# Altium footprint library Gelnar.PcbLib: 295 footprints (part 6 of 19)
Each footprint in its own frame and in the unit in brackets; x right, y up, seen from the top. Pads: shape width x height; smd on the part's side, far side on the other; paste and mask are expansions set on the pad; w line width, h text height; cw(c..) or ccw(c..) is an arc to the next point about the centre after c.
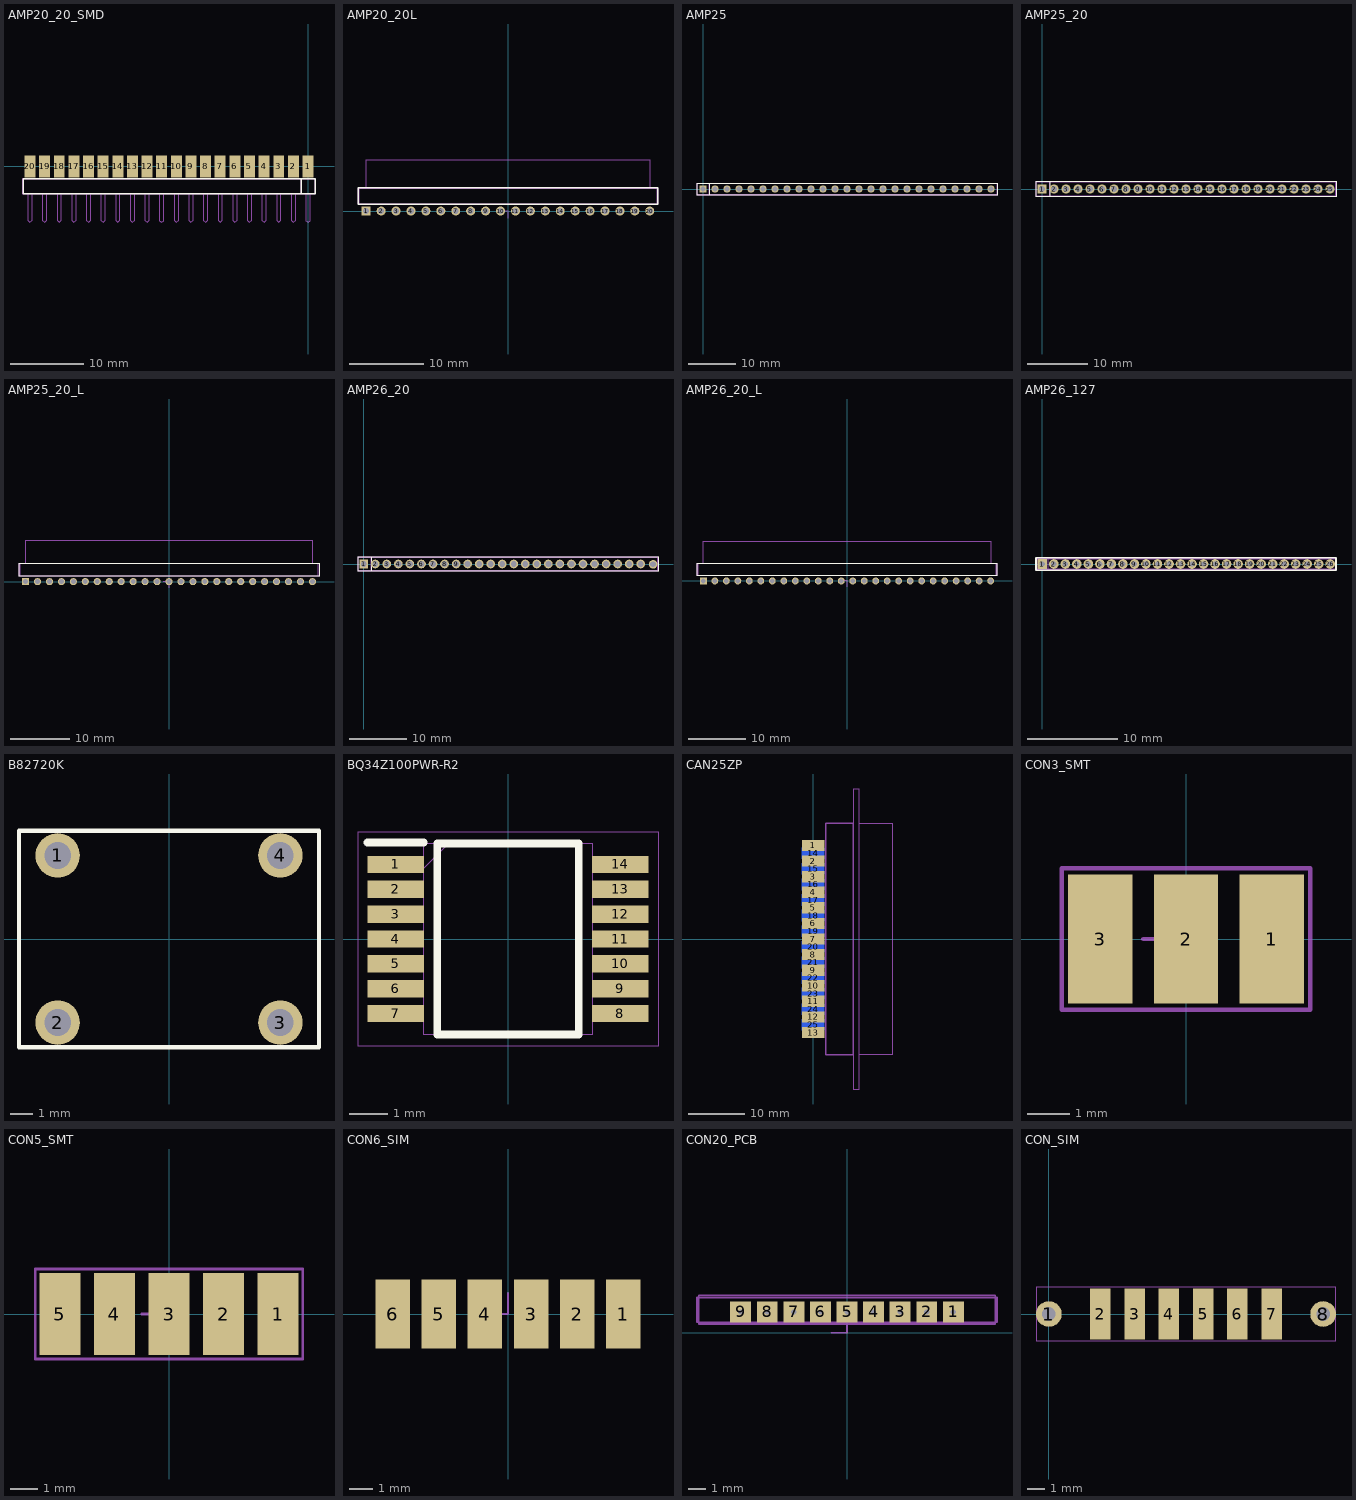
[diagram p5: the footprints below, top view; thin cyan lines are the x and y axes]

## AMP20_20_SMD [mm]
height 9.5
pads (20):
  rect 1.5x3 smd mask+0.05: 1(0,0) 2(-2,0) 3(-4,0) 4(-6,0) 5(-8,0) 6(-10,0) 7(-12,0) 8(-14,0) 9(-16,0) 10(-18,0) 11(-20,0) 12(-22,0) 13(-24,0) 14(-26,0) 15(-28,0) 16(-30,0) 17(-32,0) 18(-34,0) 19(-36,0) 20(-38,0)
Top Overlay:
  lines w0.2: -0.95,-3.7 -0.95,-1.7 ; -38.95,-3.7 1,-3.7 1,-1.7 -38.95,-1.7 -38.95,-3.7
Mechanical 15:
  lines w0.1: -0.95,-3.7 -0.95,-1.7 ; -38.95,-3.7 0.95,-3.7 0.95,-1.7 -38.95,-1.7 -38.95,-3.7 ; -38.3,-7.35 -38.3,-3.7 -37.7,-3.7 -37.7,-7.35 -38,-7.6 -38.3,-7.35 ; -36.3,-7.35 -36.3,-3.7 -35.7,-3.7 -35.7,-7.35 -36,-7.6 -36.3,-7.35 ; -34.3,-7.35 -34.3,-3.7 -33.7,-3.7 -33.7,-7.35 -34,-7.6 -34.3,-7.35 ; -32.3,-7.35 -32.3,-3.7 -31.7,-3.7 -31.7,-7.35 -32,-7.6 -32.3,-7.35 ; -30.3,-7.35 -30.3,-3.7 -29.7,-3.7 -29.7,-7.35 -30,-7.6 -30.3,-7.35 ; -28.3,-7.35 -28.3,-3.7 -27.7,-3.7 -27.7,-7.35 -28,-7.6 -28.3,-7.35 ; -26.3,-7.35 -26.3,-3.7 -25.7,-3.7 -25.7,-7.35 -26,-7.6 -26.3,-7.35 ; -24.3,-7.35 -24.3,-3.7 -23.7,-3.7 -23.7,-7.35 -24,-7.6 -24.3,-7.35 ; -22.3,-7.35 -22.3,-3.7 -21.7,-3.7 -21.7,-7.35 -22,-7.6 -22.3,-7.35 ; -20.3,-7.4 -20.3,-3.75 -19.7,-3.75 -19.7,-7.4 -20,-7.65 -20.3,-7.4 ; -18.3,-7.35 -18.3,-3.7 -17.7,-3.7 -17.7,-7.35 -18,-7.6 -18.3,-7.35 ; -16.3,-7.35 -16.3,-3.7 -15.7,-3.7 -15.7,-7.35 -16,-7.6 -16.3,-7.35 ; -14.3,-7.35 -14.3,-3.7 -13.7,-3.7 -13.7,-7.35 -14,-7.6 -14.3,-7.35 ; -12.3,-7.35 -12.3,-3.7 -11.7,-3.7 -11.7,-7.35 -12,-7.6 -12.3,-7.35 ; -10.3,-7.35 -10.3,-3.7 -9.7,-3.7 -9.7,-7.35 -10,-7.6 -10.3,-7.35 ; -8.3,-7.35 -8.3,-3.7 -7.7,-3.7 -7.7,-7.35 -8,-7.6 -8.3,-7.35 ; -6.3,-7.35 -6.3,-3.7 -5.7,-3.7 -5.7,-7.35 -6,-7.6 -6.3,-7.35 ; -4.3,-7.35 -4.3,-3.7 -3.7,-3.7 -3.7,-7.35 -4,-7.6 -4.3,-7.35 ; -2.3,-7.35 -2.3,-3.7 -1.7,-3.7 -1.7,-7.35 -2,-7.6 -2.3,-7.35 ; -0.3,-7.4 -0.3,-3.75 0.3,-3.75 0.3,-7.4 0,-7.65 -0.3,-7.4
Mechanical 16:
  lines w0.1: -38.3,-7.35 -38.3,-3.7 -37.7,-3.7 -37.7,-7.35 -38,-7.6 -38.3,-7.35 ; -36.3,-7.35 -36.3,-3.7 -35.7,-3.7 -35.7,-7.35 -36,-7.6 -36.3,-7.35 ; -34.3,-7.35 -34.3,-3.7 -33.7,-3.7 -33.7,-7.35 -34,-7.6 -34.3,-7.35 ; -32.3,-7.35 -32.3,-3.7 -31.7,-3.7 -31.7,-7.35 -32,-7.6 -32.3,-7.35 ; -30.3,-7.35 -30.3,-3.7 -29.7,-3.7 -29.7,-7.35 -30,-7.6 -30.3,-7.35 ; -28.3,-7.35 -28.3,-3.7 -27.7,-3.7 -27.7,-7.35 -28,-7.6 -28.3,-7.35 ; -26.3,-7.35 -26.3,-3.7 -25.7,-3.7 -25.7,-7.35 -26,-7.6 -26.3,-7.35 ; -24.3,-7.35 -24.3,-3.7 -23.7,-3.7 -23.7,-7.35 -24,-7.6 -24.3,-7.35 ; -22.3,-7.35 -22.3,-3.7 -21.7,-3.7 -21.7,-7.35 -22,-7.6 -22.3,-7.35 ; -20.3,-7.4 -20.3,-3.75 -19.7,-3.75 -19.7,-7.4 -20,-7.65 -20.3,-7.4 ; -18.3,-7.35 -18.3,-3.7 -17.7,-3.7 -17.7,-7.35 -18,-7.6 -18.3,-7.35 ; -16.3,-7.35 -16.3,-3.7 -15.7,-3.7 -15.7,-7.35 -16,-7.6 -16.3,-7.35 ; -14.3,-7.35 -14.3,-3.7 -13.7,-3.7 -13.7,-7.35 -14,-7.6 -14.3,-7.35 ; -12.3,-7.35 -12.3,-3.7 -11.7,-3.7 -11.7,-7.35 -12,-7.6 -12.3,-7.35 ; -10.3,-7.35 -10.3,-3.7 -9.7,-3.7 -9.7,-7.35 -10,-7.6 -10.3,-7.35 ; -8.3,-7.35 -8.3,-3.7 -7.7,-3.7 -7.7,-7.35 -8,-7.6 -8.3,-7.35 ; -6.3,-7.35 -6.3,-3.7 -5.7,-3.7 -5.7,-7.35 -6,-7.6 -6.3,-7.35 ; -4.3,-7.35 -4.3,-3.7 -3.7,-3.7 -3.7,-7.35 -4,-7.6 -4.3,-7.35 ; -2.3,-7.35 -2.3,-3.7 -1.7,-3.7 -1.7,-7.35 -2,-7.6 -2.3,-7.35 ; -0.3,-7.4 -0.3,-3.75 0.3,-3.75 0.3,-7.4 0,-7.65 -0.3,-7.4
Mechanical 20:
  lines w0.1: -39,-3.765 0.907,-3.765 0.907,-1.635 -39,-1.635 -39,-3.765

## AMP20_20L [mm]
pads (20):
  rect 1.2x1.2 hole 0.8 mask+0.05: 1(-19,0)
  round 1.2 hole 0.8 mask+0.05: 2(-17,0) 3(-15,0) 4(-13,0) 5(-11,0) 6(-9,0) 7(-7,0) 8(-5,0) 9(-3,0) 10(-1,0) 11(1,0) 12(3,0) 13(5,0) 14(7,0) 15(9,0) 16(11,0) 17(13,0) 18(15,0) 19(17,0) 20(19,0)
Top Overlay:
  lines w0.2: -20.1,0.9 20.1,0.9 20.1,3.1 -20.1,3.1 -20.1,0.9
Mechanical 15:
  lines w0.1: -19,3 -19,6.9 19,6.9 19,3 ; -20,1 20,1 20,3 -20,3 -20,1
Multi-Layer:
  text "Value" at -0.135,1.675 h0.75
Mechanical 19:
  lines w0.1: -1,0 0,0 0,-1
Mechanical 20:
  lines w0.1: -20.1,0.9 20.1,0.9 20.1,3.1 -20.1,3.1 -20.1,0.9

## AMP25 [mm]
height 9.5
pads (25):
  rect 1.5x1.5 hole 1 mask+0.1: 1(0,0)
  round 1.5 hole 1 mask+0.1: 2(2.54,0) 3(5.08,0) 4(7.62,0) 5(10.16,0) 6(12.7,0) 7(15.24,0) 8(17.78,0) 9(20.32,0) 10(22.86,0) 11(25.4,0) 12(27.94,0) 13(30.48,0) 14(33.02,0) 15(35.56,0) 16(38.1,0) 17(40.64,0) 18(43.18,0) 19(45.72,0) 20(48.26,0) 21(50.8,0) 22(53.34,0) 23(55.88,0) 24(58.42,0) 25(60.96,0)
Top Overlay:
  lines w0.2: 1.27,-1.27 1.27,1.27 ; -1.27,-1.27 62.23,-1.27 62.23,1.27 -1.27,1.27 -1.27,-1.27
Mechanical 15:
  lines w0.1: 1.27,-1.27 1.27,1.27 ; -1.27,-1.27 62.23,-1.27 62.23,1.27 -1.27,1.27 -1.27,-1.27
Multi-Layer:
  text "Value" at 17.942,-0.298 h0.75
Mechanical 20:
  lines w0.1: -1.206,-1.206 62.166,-1.206 62.166,1.206 -1.206,1.206 -1.206,-1.206

## AMP25_20 [mm]
height 9.5
pads (25):
  rect 1.5x1.5 hole 1 mask+0.1: 1(0,0)
  round 1.5 hole 1 mask+0.1: 2(2,0) 3(4,0) 4(6,0) 5(8,0) 6(10,0) 7(12,0) 8(14,0) 9(16,0) 10(18,0) 11(20,0) 12(22,0) 13(24,0) 14(26,0) 15(28,0) 16(30,0) 17(32,0) 18(34,0) 19(36,0) 20(38,0) 21(40,0) 22(42,0) 23(44,0) 24(46,0) 25(48,0)
Top Overlay:
  lines w0.2: 1.27,-1.27 1.27,1.27 ; -0.95,-1.27 49,-1.27 49,1.27 -0.95,1.27 -0.95,-1.27
Mechanical 15:
  lines w0.1: 1.27,-1.27 1.27,1.27 ; -0.95,-1.27 48.95,-1.27 48.95,1.27 -0.95,1.27 -0.95,-1.27
Mechanical 20:
  lines w0.1: -1,-1.206 48.907,-1.206 48.907,1.206 -1,1.206 -1,-1.206

## AMP25_20_L [mm]
pads (25):
  rect 1.2x1.2 hole 0.8 mask+0.05: 1(-24,0)
  round 1.2 hole 0.8 mask+0.05: 2(-22,0) 3(-20,0) 4(-18,0) 5(-16,0) 6(-14,0) 7(-12,0) 8(-10,0) 9(-8,0) 10(-6,0) 11(-4,0) 12(-2,0) 13(0,0) 14(2,0) 15(4,0) 16(6,0) 17(8,0) 18(10,0) 19(12,0) 20(14,0) 21(16,0) 22(18,0) 23(20,0) 24(22,0) 25(24,0)
Top Overlay:
  lines w0.2: -25.1,0.9 25.1,0.9 25.1,3.1 -25.1,3.1 -25.1,0.9
Mechanical 15:
  lines w0.1: -24,3 -24,6.9 24,6.9 24,3 ; -25,1 25,1 25,3 -25,3 -25,1
Mechanical 19:
  lines w0.1: -1,0 0,0 0,-1
Mechanical 20:
  lines w0.1: -25.1,0.9 25.1,0.9 25.1,3.1 -25.1,3.1 -25.1,0.9

## AMP26_20 [mm]
height 9.5
pads (26):
  rect 1.5x1.5 hole 1 mask+0.1: 1(0,0)
  round 1.5 hole 1 mask+0.1: 2(2,0) 3(4,0) 4(6,0) 5(8,0) 6(10,0) 7(12,0) 8(14,0) 9(16,0) 10(18,0) 11(20,0) 12(22,0) 13(24,0) 14(26,0) 15(28,0) 16(30,0) 17(32,0) 18(34,0) 19(36,0) 20(38,0) 21(40,0) 22(42,0) 23(44,0) 24(46,0) 25(48,0) 26(50.15,-0.05)
Top Overlay:
  lines w0.2: 1.27,-1.27 1.27,1.27 ; -0.95,-1.27 51,-1.27 51,1.27 -0.95,1.27 -0.95,-1.27
Mechanical 15:
  lines w0.1: 1.27,-1.27 1.27,1.27 ; -0.95,-1.27 50.95,-1.27 50.95,1.27 -0.95,1.27 -0.95,-1.27
Multi-Layer:
  text "Value" at 15.942,-0.298 h0.75
Mechanical 20:
  lines w0.1: -1,-1.206 50.906,-1.206 50.906,1.206 -1,1.206 -1,-1.206

## AMP26_20_L [mm]
pads (26):
  rect 1.2x1.2 hole 0.8 mask+0.05: 1(-25,0)
  round 1.2 hole 0.8 mask+0.05: 2(-23,0) 3(-21,0) 4(-19,0) 5(-17,0) 6(-15,0) 7(-13,0) 8(-11,0) 9(-9,0) 10(-7,0) 11(-5,0) 12(-3,0) 13(-1,0) 14(1,0) 15(3,0) 16(5,0) 17(7,0) 18(9,0) 19(11,0) 20(13,0) 21(15,0) 22(17,0) 23(19,0) 24(21,0) 25(23,0) 26(25,0)
Top Overlay:
  lines w0.2: -26.1,0.9 26.1,0.9 26.1,3.1 -26.1,3.1 -26.1,0.9
Mechanical 15:
  lines w0.1: -25,3 -25,6.9 25,6.9 25,3 ; -26,1 26,1 26,3 -26,3 -26,1
Multi-Layer:
  text "Value" at -6.135,1.675 h0.75
Mechanical 19:
  lines w0.1: -1,0 0,0 0,-1
Mechanical 20:
  lines w0.1: -26.1,0.9 26.1,0.9 26.1,3.1 -26.1,3.1 -26.1,0.9

## AMP26_127 [mm]
height 9.5
pads (26):
  rect 1.06x1.06 hole 0.6 mask+0.05: 1(0,0)
  round 1.06 hole 0.6 mask+0.05: 2(1.27,0) 3(2.54,0) 4(3.81,0) 5(5.08,0) 6(6.35,0) 7(7.62,0) 8(8.89,0) 9(10.16,0) 10(11.43,0) 11(12.7,0) 12(13.97,0) 13(15.24,0) 14(16.51,0) 15(17.78,0) 16(19.05,0) 17(20.32,0) 18(21.59,0) 19(22.86,0) 20(24.13,0) 21(25.4,0) 22(26.67,0) 23(27.94,0) 24(29.21,0) 25(30.48,0) 26(31.75,0)
Top Overlay:
  lines w0.2: -0.699,-0.699 32.39,-0.699 32.39,0.699 -0.699,0.699 -0.699,-0.699
Mechanical 15:
  lines w0.1: 0.635,-0.635 0.635,0.635 ; -0.635,-0.635 32.34,-0.635 32.34,0.635 -0.635,0.635 -0.635,-0.635
Multi-Layer:
  text "Value" at 1.305,-1.695 h0.75
Mechanical 20:
  lines w0.1: -0.572,-0.572 32.29,-0.572 32.29,0.572 -0.572,0.572 -0.572,-0.572

## B82720K [mm]
height 14
pads (4):
  round 2 hole 1.2 mask+0.1: 1(-5,3.75) 2(-5,-3.75) 3(5,-3.75) 4(5,3.75)
Top Overlay:
  lines w0.2: -6.735,-4.858 6.735,-4.858 6.735,4.858 -6.735,4.858 -6.735,-4.858
Mechanical 15:
  lines w0.01: -6.7,-4.8 6.7,-4.8 6.7,4.8 -6.7,4.8 -6.7,-4.8
Multi-Layer:
  text "Value" at -1.09,-1.78 h0.75
Mechanical 20:
  lines w0.01: -6.735,-4.858 6.735,-4.858 6.735,4.858 -6.735,4.858 -6.735,-4.858

## BQ34Z100PWR-R2 [mm]
pads (14):
  rect 1.475x0.45 smd mask+0.05: 1(-2.938,1.95) 2(-2.938,1.3) 3(-2.938,0.65) 4(-2.938,0) 5(-2.938,-0.65) 6(-2.938,-1.3) 7(-2.938,-1.95) 8(2.938,-1.95) 9(2.938,-1.3) 10(2.938,-0.65) 11(2.938,0) 12(2.938,0.65) 13(2.938,1.3) 14(2.938,1.95)
Top Overlay:
  lines w0.2: -3.675,2.525 -2.2,2.525 ; -1.85,-2.5 1.85,-2.5 1.85,2.5 -1.85,2.5 -1.85,-2.5
Mechanical 15:
  lines w0.01: -2.2,1.85 -1.55,2.5 ; -2.2,-2.5 2.2,-2.5 2.2,2.5 -2.2,2.5 -2.2,-2.5
Multi-Layer:
  text "Value" at -1.143,-0.889 h0.6
Mechanical 20:
  lines w0.01: -3.925,-2.8 3.925,-2.8 3.925,2.8 -3.925,2.8 -3.925,-2.8

## CAN25ZP [mm]
pads (25):
  rect 4x2 smd mask+0.1: 1(0,16.56) 2(0,13.8) 3(0,11.04) 4(0,8.28) 5(0,5.52) 6(0,2.76) 7(0,0) 8(0,-2.76) 9(0,-5.52) 10(0,-8.28) 11(0,-11.04) 12(0,-13.8) 13(0,-16.56)
  rect 4x2 smd far side mask+0.1: 14(0,15.18) 15(0,12.42) 16(0,9.66) 17(0,6.9) 18(0,4.14) 19(0,1.38) 20(0,-1.38) 21(0,-4.14) 22(0,-6.9) 23(0,-9.66) 24(0,-12.42) 25(0,-15.18)
Mechanical 15:
  lines w0.1: 2.222,-20.511 7.15,-20.511 7.15,20.511 2.222,20.511 2.222,-20.511 ; 7.14,-26.543 8.156,-26.543 8.156,26.543 7.14,26.543 7.14,-26.543 ; 8.2,-20.511 14,-20.511 14,20.511 8.2,20.511 8.2,-20.511
  text "1" at 3.022,16.212 h0.75
  text "13" at 2.523,-16.935 h0.75
Mechanical 16:
  lines w0.1: 2.222,-20.511 7.15,-20.511 7.15,20.511 2.222,20.511 2.222,-20.511 ; 7.14,-26.543 7.14,26.543 8.156,26.543 8.156,-26.543 7.14,-26.543 ; 8.2,-20.511 14,-20.511 14,20.511 8.2,20.511 8.2,-20.511
  text "14" at 3.754,14.879 h0.75
  text "25" at 3.668,-15.474 h0.75
Multi-Layer:
  text "Value" at -1.235,-1.805 h0.75

## CON3_SMT [mm]
pads (3):
  rect 1.5x3 smd mask+0.05: 1(2,0) 2(0,0) 3(-2,0)
Mechanical 15:
  lines w0.1: -2.9,-1.65 2.9,-1.65 2.9,1.65 -2.9,1.65 -2.9,-1.65
Multi-Layer:
  text "Value" at -1.188,-1.35 h0.6
Mechanical 19:
  lines w0.1: -1,0 0,0 0,0.9

## CON5_SMT [mm]
pads (5):
  rect 1.5x3 smd mask+0.05: 1(4,0) 2(2,0) 3(0,0) 4(-2,0) 5(-4,0)
Mechanical 15:
  lines w0.1: -4.9,-1.65 4.9,-1.65 4.9,1.65 -4.9,1.65 -4.9,-1.65
Multi-Layer:
  text "Value" at -3.138,-1.25 h0.6
Mechanical 19:
  lines w0.1: -1,0 0,0 0,0.9

## CON6_SIM [mm]
pads (6):
  rect 1.5x3 smd mask+0.05: 1(5,0) 2(3,0) 3(1,0) 4(-1,0) 5(-3,0) 6(-5,0)
Multi-Layer:
  text "Value" at -1.888,-1.55 h0.6
Mechanical 19:
  lines w0.1: -0.91,0 0,0 0,0.9

## CON20_PCB [mm]
pads (9):
  rect 1.2x1.2 hole 0.3 mask+0.05: 1(6.096,1.2) 2(4.572,1.2) 3(3.048,1.2) 4(1.524,1.2) 5(0,1.2) 6(-1.524,1.2) 7(-3.048,1.2) 8(-4.572,1.2) 9(-6.096,1.2)
Mechanical 15:
  lines w0.1: -8.5,0.5 8.5,0.5 8.5,2.159 -8.5,2.159 -8.5,0.5
Multi-Layer:
  text "Value" at -1.888,-1.55 h0.6
Mechanical 19:
  lines w0.1: -0.91,0 0,0 0,0.9
Mechanical 20:
  lines w0.1: -8.6,0.6 8.6,0.6 8.6,2.032 -8.6,2.032 -8.6,0.6

## CON_SIM [mm]
pads (8):
  round 1.5 hole 0.8 unplated mask+0.05: 1(0,0) 8(16,0)
  rect 1.2x3 smd mask+0.05: 2(3,0) 3(5,0) 4(7,0) 5(9,0) 6(11,0) 7(13,0)
Mechanical 15:
  lines w0.01: -0.7,-1.6 16.7,-1.6 16.7,1.6 -0.7,1.6 -0.7,-1.6
Multi-Layer:
  text "Value" at 5.763,-0.254 h0.6